# Altium schematic symbol library Power_Manager.SchLib: 4 symbols
Pins are listed as number, name and electrical type; pins without a type are passive.

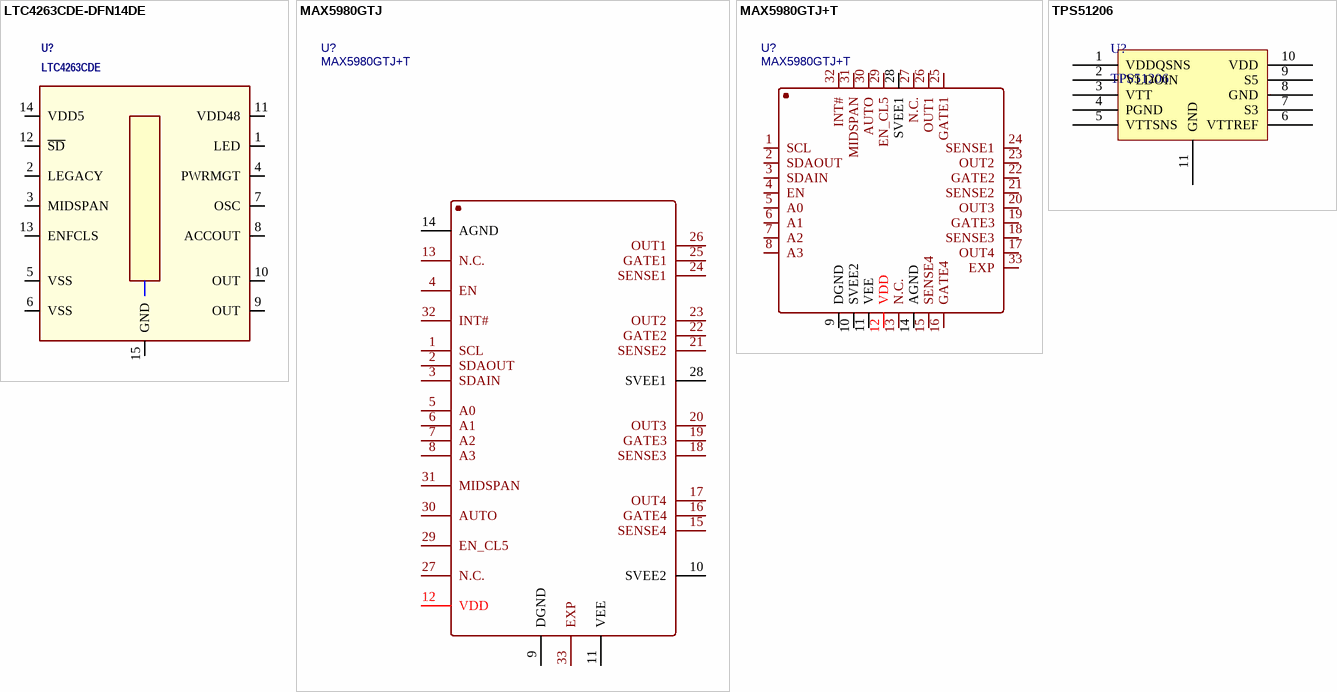
[diagram p0: symbols LTC4263CDE-DFN14DE to TPS51206]

## LTC4263CDE-DFN14DE
designator U?, comment LTC4263CDE
UCOST: $0.00; DES: IC, LINEAR TECH, LT1355CS8
footprint DFN-14-1EP_4x3mm_P0.5mm_EP1.7x3.3mm (SON, 14-Leads, Body 4.00x3.00mm, Pitch 0.50mm, Thermal Pad 3.30x1.70mm, IPC Low Density)
pins: 1 LED, 2 LEGACY, 3 MIDSPAN, 4 PWRMGT, 5 VSS, 6 VSS, 7 OSC, 8 ACCOUT, 9 OUT, 10 OUT, 11 VDD48, 12 ~{SD}, 13 ENFCLS, 14 VDD5, 15 GND

## MAX5980GTJ
designator U?, comment MAX5980GTJ+T
BOM_Manufacturer: MAXIM; Contributor: LCSC; BOM_Supplier: LCSC; BOM_Manufacturer Part: MAX5980GTJ+T; BOM_Supplier Part: C118344; BOM_JLCPCB Part Class: Extended Part; spicePre: U; spiceSymbolName: MAX5980GTJ+T
footprint TQFN-32_L5.0-W5.0-P0.50-BL-EP
pins: 1 SCL, 2 SDAOUT, 3 SDAIN, 4 EN, 5 A0, 6 A1, 7 A2, 8 A3, 9 DGND, 10 SVEE2, 11 VEE, 12 VDD, 13 N.C., 14 AGND, 15 SENSE4, 16 GATE4, 17 OUT4, 18 SENSE3, 19 GATE3, 20 OUT3, 21 SENSE2, 22 GATE2, 23 OUT2, 24 SENSE1, 25 GATE1, 26 OUT1, 27 N.C., 28 SVEE1, 29 EN_CL5, 30 AUTO, 31 MIDSPAN, 32 INT#, 33 EXP

## MAX5980GTJ+T
designator U?
BOM_Manufacturer: MAXIM; Contributor: LCSC; BOM_Supplier: LCSC; BOM_Manufacturer Part: MAX5980GTJ+T; BOM_Supplier Part: C118344; BOM_JLCPCB Part Class: Extended Part; spicePre: U; spiceSymbolName: MAX5980GTJ+T
footprint TQFN-32_L5.0-W5.0-P0.50-BL-EP
pins: 1 SCL, 2 SDAOUT, 3 SDAIN, 4 EN, 5 A0, 6 A1, 7 A2, 8 A3, 9 DGND, 10 SVEE2, 11 VEE, 12 VDD, 13 N.C., 14 AGND, 15 SENSE4, 16 GATE4, 17 OUT4, 18 SENSE3, 19 GATE3, 20 OUT3, 21 SENSE2, 22 GATE2, 23 OUT2, 24 SENSE1, 25 GATE1, 26 OUT1, 27 N.C., 28 SVEE1, 29 EN_CL5, 30 AUTO, 31 MIDSPAN, 32 INT#, 33 EXP

## TPS51206
designator U?
TPS51206 2-A Peak Sink / Source DDR Termination Regulator With VTTREF Buffered Reference for DDR2, DDR3, DDR3L, and DDR4
footprint WSON-10-1EP_2x2mm_P0.4mm_EP0.9x1.5mm (SON, 10-Leads, Body 2.00x2.00mm, Pitch 0.40mm, Thermal Pad 1.50x0.78mm, IPC Medium Density)
pins: 1 VDDQSNS, 2 VLDOIN, 3 VTT, 4 PGND, 5 VTTSNS, 6 VTTREF, 7 S3, 8 GND, 9 S5, 10 VDD, 11 GND